# Altium footprint library Noxet Lib.PcbLib: 15 footprints
Each footprint in its own frame and in the unit in brackets; x right, y up, seen from the top. Pads: shape width x height; smd on the part's side, far side on the other; paste and mask are expansions set on the pad; w line width, h text height; cw(c..) or ccw(c..) is an arc to the next point about the centre after c.
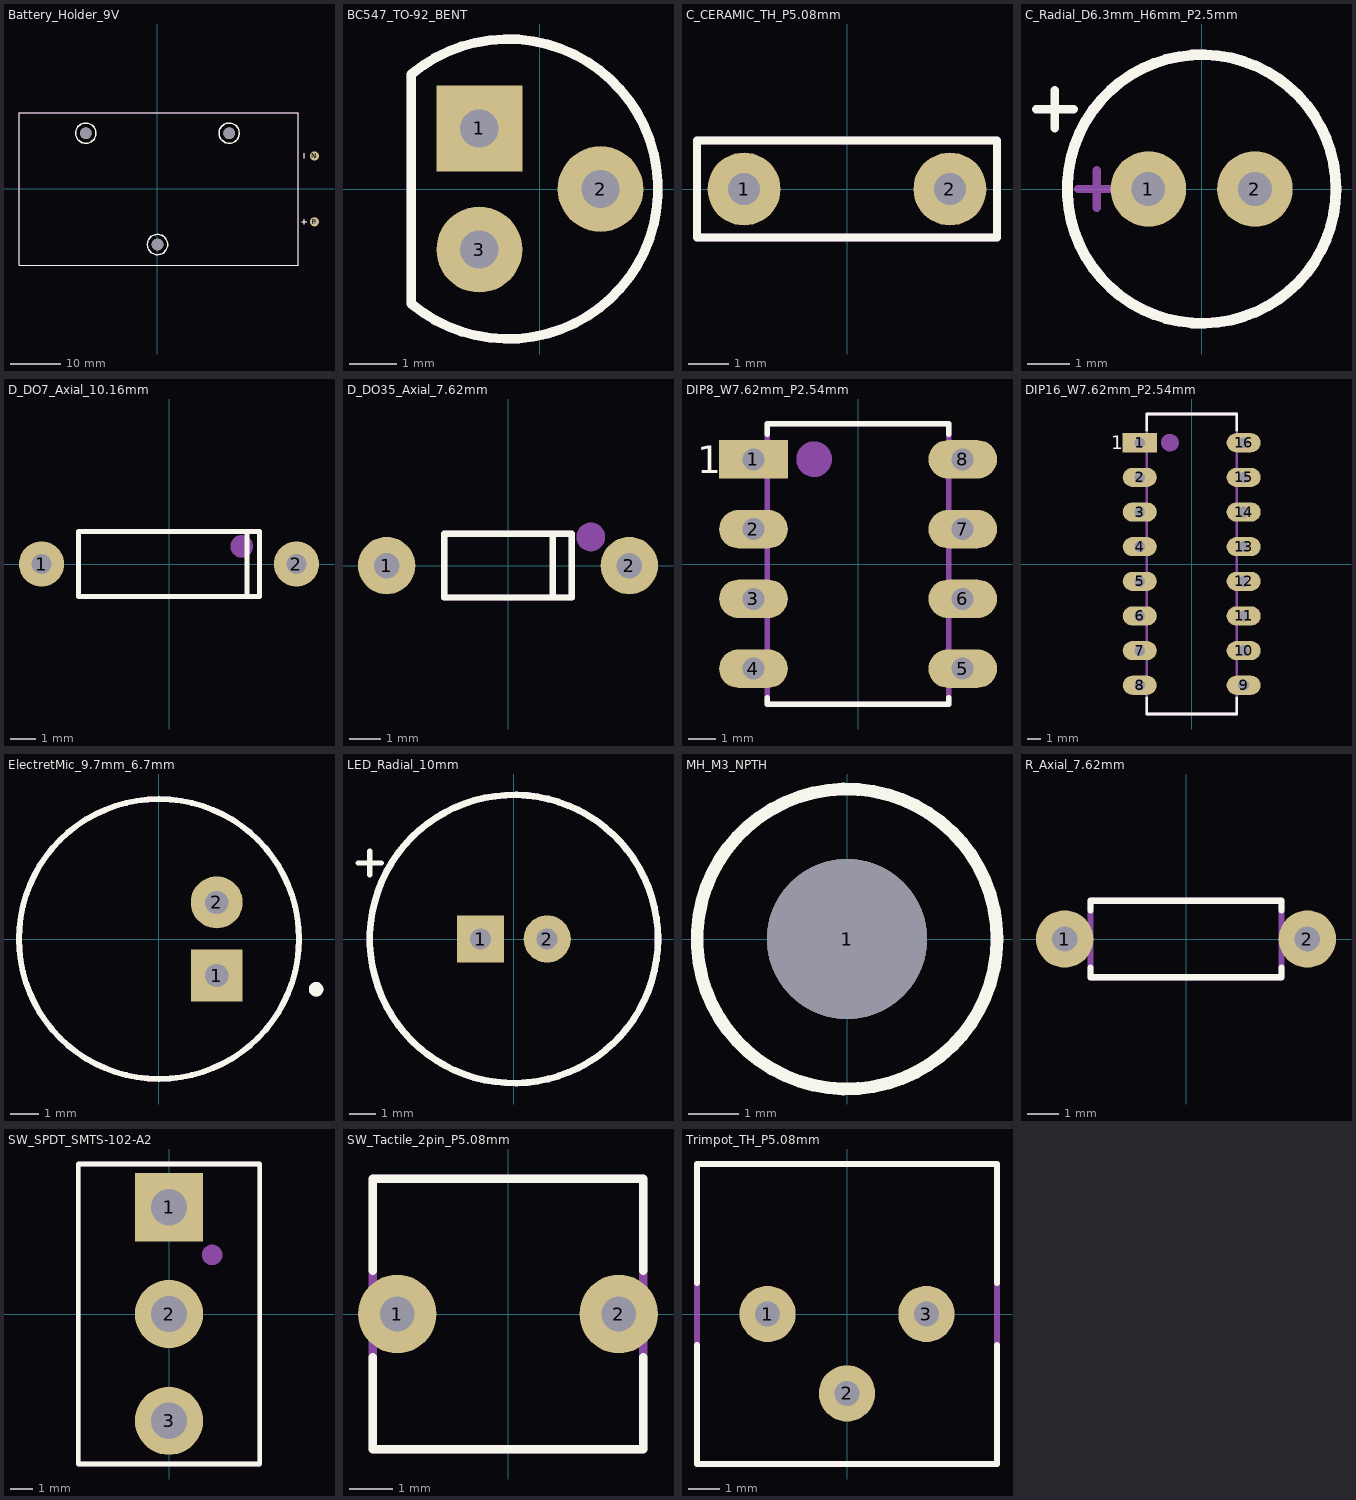
[diagram p0: the footprints below, top view; thin cyan lines are the x and y axes]

## Battery_Holder_9V [mm]
pads (5):
  round 1.8 hole 0.8: N(31,6.5) P(31,-6.5)
  round 2.3 hole 2.3 unplated: ""(-14.15,11) ""(0,-11) ""(14.15,11)
Top Overlay:
  circle w0.254: c-14.15,11 r2
  circle w0.254: c14.15,11 r2
  circle w0.254: c0,-11 r2
  lines w0.2: 28.5,-6.5 29.5,-6.5 ; 29,-7 29,-6 ; 29,6 29,7 ; -27.356,-15.088 27.762,-15.088 27.762,15.037 -27.356,15.037 -27.356,-15.088
Bottom Overlay:
  circle w0.254: c-14.15,11 r2
  circle w0.254: c14.15,11 r2
  circle w0.254: c0,-11 r2
Top Assembly:
  lines w0.2: -27.356,-15.088 27.762,-15.088 ; -27.356,-15.088 -27.356,15.037 ; -27.356,-15.088 27.762,-15.088 ; -27.356,-15.088 -27.356,15.037 ; -27.356,15.037 27.762,15.037 ; -27.356,15.037 27.762,15.037 ; 27.762,-15.088 27.762,15.037 ; 27.762,-15.088 27.762,15.037 ; 28.5,-6.5 29.5,-6.5 28.5,-6.5 ; 29,-7 29,-6 29,-7 ; 29,6 29,7 29,6
  text ".Designator" at -2.7,-1.034 h2
3D body "step_temp.STEP": height 21.46, standoff -4.85, extent -27.559,-15.062 27.559,15.062

## BC547_TO-92_BENT [mm]
pads (3):
  rect 1.8x1.8 hole 0.8: 1(-1.27,1.27)
  round 1.8 hole 0.8: 2(1.27,0) 3(-1.27,-1.27)
Top Overlay:
  lines w0.2: -2.7,-2.4 ccw(c-0.669,0) -2.7,2.4 -2.7,-2.4
Top Assembly:
  circle w0.6: c-1.3,1.3 r0.2
  lines w0.2: -2.7,-2.4 ccw(c-0.669,0) -2.7,2.4 -2.7,-2.4
  text ".Designator" at -1.3,-0.4 h1.2
3D body "TO-92_CB254_BENT.STEP": height 9.5, standoff -3, extent -2.67,-2.5 1.44,2.5

## C_CERAMIC_TH_P5.08mm [mm]
pads (2):
  round 1.8 hole 0.8: 1(-2.54,0) 2(2.54,0)
Top Overlay:
  lines w0.2: -3.7,-1.2 3.7,-1.2 3.7,1.2 -3.7,1.2 -3.7,-1.2
Top Assembly:
  circle w0.5: c-2.54,0 r0.2
  lines w0.2: -3.7,-1.2 -3.7,1.2 3.7,1.2 3.7,-1.2 -3.7,-1.2
  text ".Designator" at -0.9,-0.367 h1
3D body "0.1uF Capacitor 5.08 mm.STEP": height 6, standoff -2.39, extent -2.79,-1.11 2.79,1.1

## C_Radial_D6.3mm_H6mm_P2.5mm [mm]
pads (2):
  round 1.8 hole 0.8: 1(-1.27,0) 2(1.27,0)
Top Overlay:
  circle w0.254: c0,0 r3.202
  lines w0.2: -3.95,1.9 -3.05,1.9 ; -3.5,1.45 -3.5,2.35
Top Assembly:
  circle w0.254: c0,0 r3.202
  lines w0.2: -2.95,0 -2.05,0 ; -2.5,-0.45 -2.5,0.45
  text ".Designator" at -1.346,-0.638 h1.52
3D body "CAPPR_D6.3mm_H6mm_P2.5mm.STEP": height 1.9, standoff -6.4, extent -3.15,-3.149 3.15,3.149

## D_DO7_Axial_10.16mm [mm] "Germanium diode"
pads (2):
  round 1.8 hole 0.8: 1(-5.08,0) 2(5.08,0)
Top Overlay:
  lines w0.2: 3.1,-1.3 3.1,1.3 ; -3.6,-1.3 -3.6,1.3 3.6,1.3 3.6,-1.3 -3.6,-1.3
Top Assembly:
  circle w0.5: c2.9,0.7 r0.2
  lines w0.2: -3.6,-1.3 3.6,-1.3 3.6,1.3 -3.6,1.3 -3.6,-1.3
  text ".Designator" at -1.226,-0.538 h1.52
3D body "User Library-DO-15-1.STEP": height 3.25, standoff -3.35, extent -5.46,-1.6 5.5,1.6

## D_DO35_Axial_7.62mm [mm] "Silicon diode"
pads (2):
  round 1.8 hole 0.8: 1(-3.81,0) 2(3.81,0)
Top Overlay:
  lines w0.2: 1.4,-1 1.4,1 ; -2,-1 -2,1 2,1 2,-1 -2,-1
Top Assembly:
  circle w0.5: c2.6,0.9 r0.2
  lines w0.2: -2,-1 2,-1 2,1 -2,1 -2,-1
  text ".Designator" at -1.4,-0.6 h1.2
3D body "DO-35_P7.62mm.STEP": height 1.82, standoff -2, extent -4.085,-0.901 4.085,0.901

## DIP8_W7.62mm_P2.54mm [mm]
pads (8):
  rect 2.5x1.4 hole 0.8: 1(-3.81,3.81)
  oval 2.5x1.4 hole 0.8: 2(-3.81,1.27) 3(-3.81,-1.27) 4(-3.81,-3.81) 5(3.81,-3.81) 6(3.81,-1.27) 7(3.81,1.27) 8(3.81,3.81)
Top Overlay:
  lines w0.2: -3.3,-4.88 -3.3,-5.1 3.3,-5.1 3.3,-4.88 ; -3.3,4.72 -3.3,5.1 3.3,5.1 3.3,4.72
  text "1" at -5.867,3.3 h1
Top Assembly:
  circle w0.7: c-1.6,3.82 r0.3
  lines w0.2: -3.3,-5.1 3.3,-5.1 3.3,5.1 -3.3,5.1 -3.3,-5.1
  text ".Designator" at 0.58,-2.326 h2
3D body "TL071CP.STEP": height 5.08, standoff -3.81, extent -3.937,-4.794 3.937,4.794

## DIP16_W7.62mm_P2.54mm [mm]
pads (16):
  rect 2.5x1.4 hole 0.8: 1(-3.81,8.89)
  oval 2.5x1.4 hole 0.8: 2(-3.81,6.35) 3(-3.81,3.81) 4(-3.81,1.27) 5(-3.81,-1.27) 6(-3.81,-3.81) 7(-3.81,-6.35) 8(-3.81,-8.89) 9(3.81,-8.89) 10(3.81,-6.35) 11(3.81,-3.81) 12(3.81,-1.27) 13(3.81,1.27) 14(3.81,3.81) 15(3.81,6.35) 16(3.81,8.89)
Top Overlay:
  lines w0.2: -3.3,-9.8 -3.3,-11 3.3,-11 3.3,-9.8 ; -3.3,9.8 -3.3,11 3.3,11 3.3,9.8
  text "1" at -5.9,8.4 h1
Top Assembly:
  circle w0.7: c-1.6,8.9 r0.3
  lines w0.2: -3.3,-11 -3.3,11 3.3,11 3.3,-11 -3.3,-11
  text ".Designator" at 0.98,-4.346 h2
3D body "DIP16.STEP": height 4.19, standoff -2.57, extent -3.874,-10.795 4,10.795

## ElectretMic_9.7mm_6.7mm [mm]
pads (2):
  rect 1.8x1.8 hole 0.8: 1(2,-1.27)
  round 1.8 hole 0.8: 2(2,1.27)
Top Overlay:
  circle w0.3: c5.443,-1.741 r0.1
  circle w0.2: c0,0 r4.85
Top Assembly:
  circle w0.5: c2,-1.3 r0.2
  circle w0.2: c0,0 r4.85
  text ".Designator" at -1.6,-0.4 h1.2
Mechanical 13:
  circle w0.3: c5.443,-1.741 r0.1
  circle w0.127: c0,0 r4.85
3D body "CUI_DEVICES_CMA-4544PF-W.step": height 4.71, standoff -4.49, extent -4.85,-4.85 4.85,4.85

## LED_Radial_10mm [mm]
pads (2):
  rect 1.8x1.8 hole 0.8: 1(-1.27,0)
  round 1.8 hole 0.8: 2(1.27,0)
Top Overlay:
  circle w0.254: c0,0 r5.5
  lines w0.2: -5.95,2.9 -5.05,2.9 ; -5.5,2.45 -5.5,3.35
Top Assembly:
  circle w0.5: c-1.3,0 r0.2
  circle w0.254: c0,0 r5.5
  text ".Designator" at -1,-1.6 h1.2
3D body "LED 10mm White.step": height 14.01, standoff -5.64, extent -5.5,-5.5 5.5,5.5

## MH_M3_NPTH [mm]
pads (1):
  round 3.2 hole 3.2 unplated: 1(0,0)
Top Overlay:
  circle w0.254: c0,0 r3
Bottom Overlay:
  circle w0.254: c0,0 r3

## R_Axial_7.62mm [mm]
pads (2):
  round 1.8 hole 0.8: 1(-3.81,0) 2(3.81,0)
Top Overlay:
  lines w0.2: -3,-0.9 -3,-1.2 3,-1.2 3,-0.9 ; -3,0.9 -3,1.2 3,1.2 3,0.9
Top Assembly:
  lines w0.2: -3,-1.2 3,-1.2 3,1.2 -3,1.2 -3,-1.2
  text ".Designator" at -1.846,-0.338 h1.52
3D body "R-Axial-0_25W-7_62.STEP": height 2.7, standoff -3.5, extent -4.11,-1.203 4.11,1.203

## SW_SPDT_SMTS-102-A2 [mm]
pads (3):
  rect 3x3 hole 1.6: 1(0,4.7)
  round 3 hole 1.6: 2(0,0) 3(0,-4.7)
Top Overlay:
  lines w0.2: -4,-6.6 4,-6.6 4,6.6 -4,6.6 -4,-6.6
Top Assembly:
  circle w0.5: c1.9,2.6 r0.2
  lines w0.2: -4,-6.6 4,-6.6 4,6.6 -4,6.6 -4,-6.6
  text ".Designator" at 0.7,-1.7 h1.5
3D body "MTS-1xx-A2-blue.step": height 30.13, standoff -5.5, extent -5.999,-6.6 5.999,6.792

## SW_Tactile_2pin_P5.08mm [mm]
pads (2):
  round 1.8 hole 0.8: 1(-2.54,0) 2(2.54,0)
Top Overlay:
  lines w0.2: -3.1,-1 -3.1,-3.1 3.1,-3.1 3.1,-1 ; -3.1,1 -3.1,3.1 3.1,3.1 3.1,1.2 3.1,1
Top Assembly:
  circle w0.5: c-2.54,0 r0.2
  lines w0.2: -3.1,-3.1 3.1,-3.1 3.1,3.1 -3.1,3.1 -3.1,-3.1
  text ".Designator" at -0.9,-0.367 h1
3D body: height 0, standoff -8, extent 2.29,-0.25 2.79,0.25
3D body: height 0, standoff -8, extent -2.79,-0.25 -2.29,0.25
3D body: height 5.4, standoff 4, extent -1.7,-1.7 1.7,1.7
3D body: height 4, standoff 0, extent -3.1,-3.1 3.1,3.1

## Trimpot_TH_P5.08mm [mm]
pads (3):
  round 1.8 hole 0.8: 1(-2.54,0) 2(0,-2.54) 3(2.54,0)
Top Overlay:
  lines w0.2: -4.8,-1 -4.8,-4.8 4.8,-4.8 4.8,-1 ; -4.8,1 -4.8,4.8 4.8,4.8 4.8,1
Top Assembly:
  circle w0.5: c-2.54,0 r0.2
  lines w0.2: -4.8,-4.8 4.8,-4.8 4.8,4.8 -4.8,4.8 -4.8,-4.8
  text ".Designator" at -0.9,-0.367 h1
3D body "Trimpot 3386P.STEP": height 5.02, standoff -5.49, extent -4.8,-4.78 4.8,4.82